# EAGLE library part IV-11-CARRIER (library boztalay)
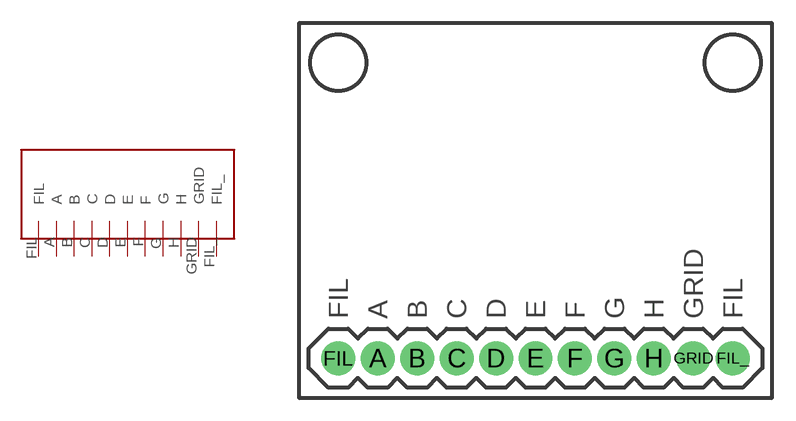
[diagram p2: symbol with the pads of IV-11-CARRIER; footprint IV-11-CARRIER]

Designator prefix -

## IV-11-CARRIER  [IV-11-CARRIER]
A  A
B  B
C  C
D  D
E  E
F  F
FIL  FIL
FIL_  FIL_
G  G
GRID  GRID
H  H

## Footprint IV-11-CARRIER (pad centres in mm)
drill 1 pad 2.184: A -10.16,0; B -7.62,0; C -5.08,0; D -2.54,0; E 0,0; F 2.54,0; FIL -12.7,0; FIL_ 12.7,0; G 5.08,0; GRID 10.16,0; H 7.62,0